# Altium integrated library Analog Devices RF IF PLL Synthesizers and VCOs.IntLib: 183 symbols (part 5 of 15)
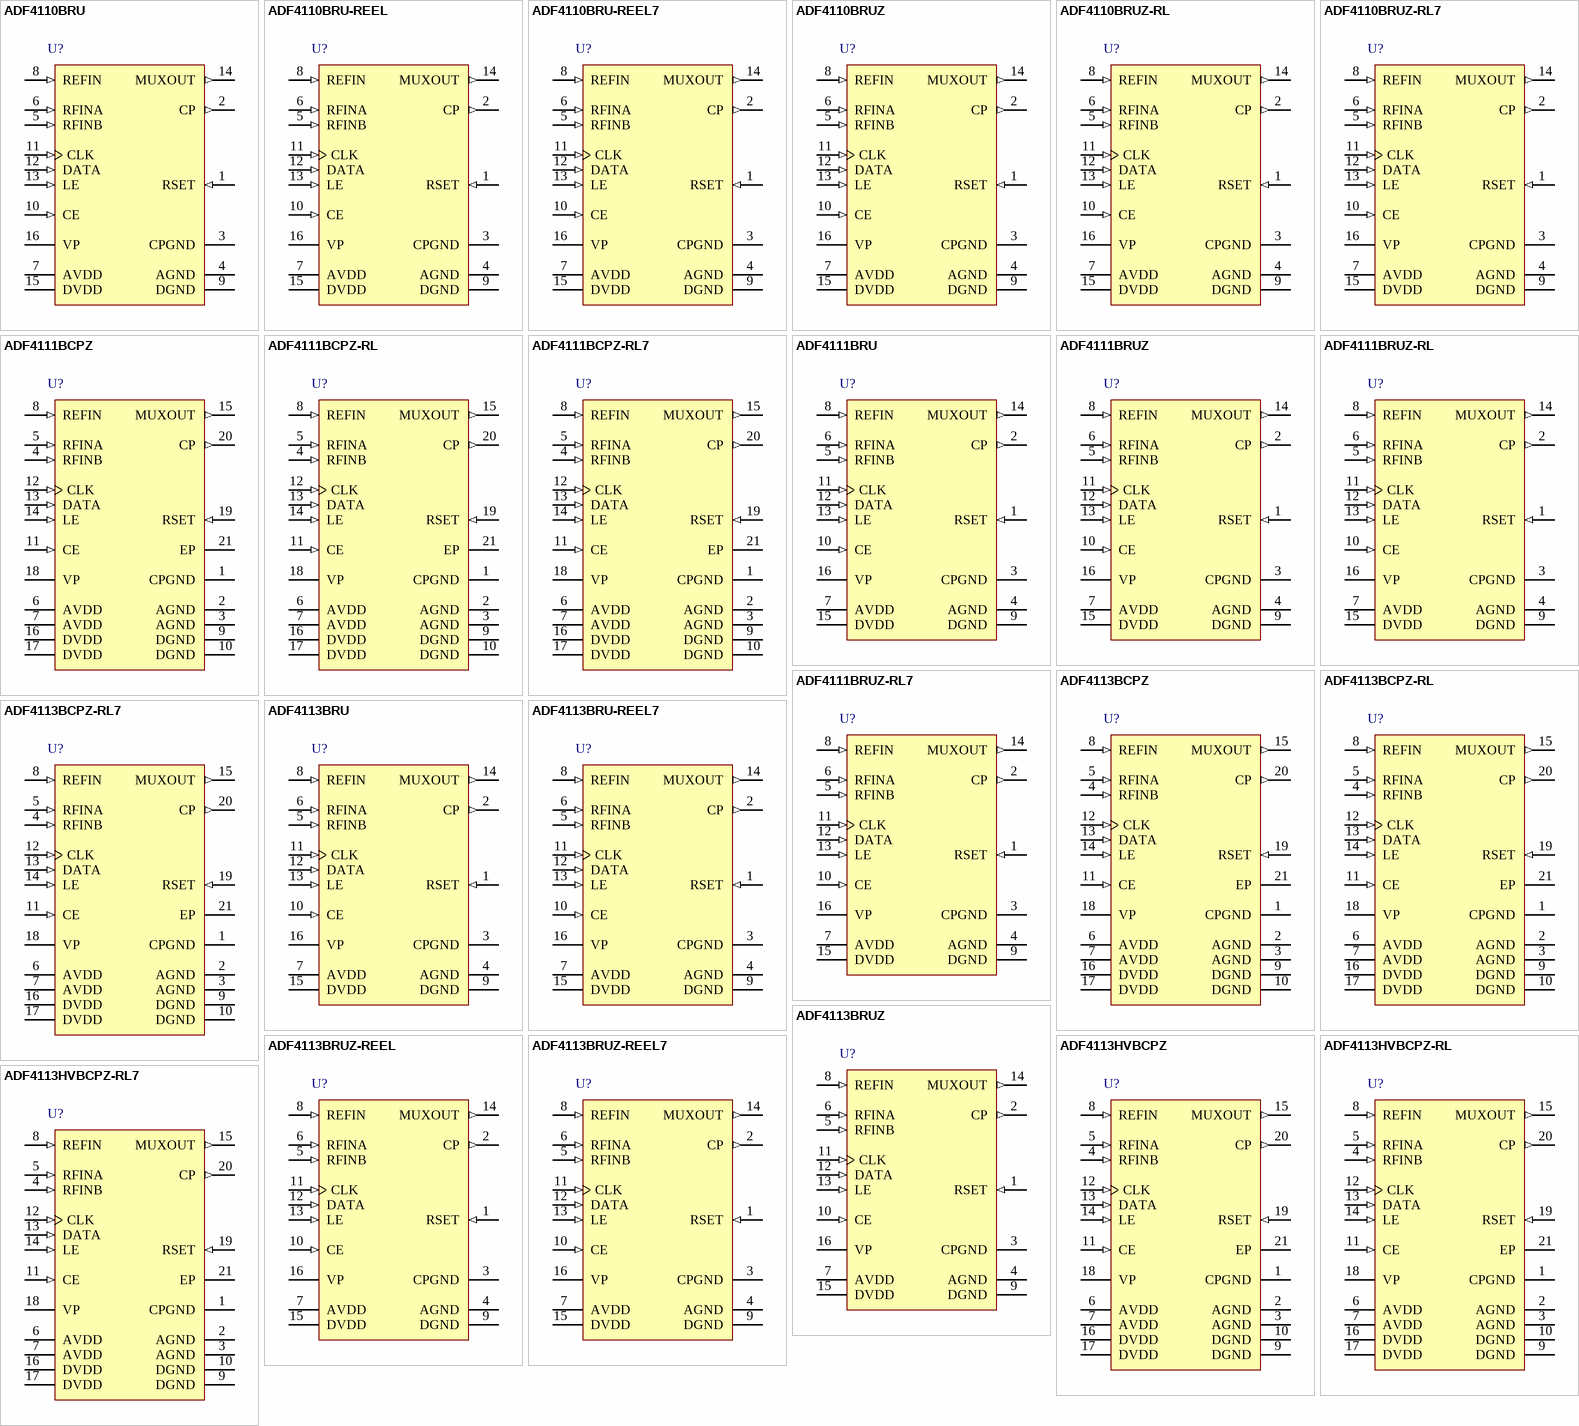
[diagram p12: symbols ADF4110BRU to ADF4113HVBCPZ-RL7]

## ADF4110BRUZ-RL
designator U?
RF PLL Frequency Synthesizers, RU-16, Pb-Free, 2500 Reel; Single/Dual: Single; Max RF Input (MHz): 550MHz; RF Prescalers: 16/17, 32/33, 64/65, 8/9; Max REFin (MHz): 104MHz; Norm Phase Noise (dBc/Hz): -215dBc; Frequency Range: 50MHz-550MHz; Supply Current: 4.5mA; DatasheetVersion: Rev. C; PackageVersion: Nov-2002; PackageReference: RU-16; PackageDescription: 16-Lead Thin Shrink Small Outline Package [TSSOP]; Code_JEDEC: MO-153AB; ComponentLink1Description: Manufacturer URL; ComponentLink1URL: www.analog.com; ComponentLink2Description: Datasheet; ComponentLink2URL: http://www.analog.com/static/imported-files/data_sheets/ADF4110_4111_4112_4113.pdf; ComponentLink3Description: Package Specification; ComponentLink3URL: http://www.analog.com/static/imported-files/packages/36244347913743854010197452789RU16.pdf
footprint ADI-RU-16_N (TSOP, 16-Leads, Body 5x4.4mm, Pitch 0.65mm, IPC Medium Density)
footprint ADI-RU-16_L (TSOP, 16-Leads, Body 5x4.4mm, Pitch 0.65mm, IPC High Density)
footprint ADI-RU-16_M (TSOP, 16-Leads, Body 5x4.4mm, Pitch 0.65mm, IPC Low Density)
pins: 1 RSET (in) "Connecting a resistor between this pin and CPGND sets the maximum charge pump output current.The nominal voltage potential at the RSET pin is 0.56 V", 2 CP (out) "Charge Pump Output. When enabled, this provides +/-ICP to the external loop filter, which in turn drives the external VCO", 3 CPGND (power) "Charge Pump Ground. This is the ground return path for the charge pump", 4 AGND (power) "Analog Ground. This is the ground return path of the prescaler", 5 RFINB (in) "Complementary Input to the RF Prescaler. This point should be decoupled to the ground plane with a small bypass capacitor, typically 100 pF", 6 RFINA (in) "Input to the RF Prescaler. This small-signal input is ac-coupled from the VCO", 7 AVDD (power) "Analog Power Supply. This may range from 2.7 V to 5.5 V. Decoupling capacitors to the analog ground plane should be placed as close as possible to this pin. [see datasheet]", 8 REFIN (in) "Reference Input. This is a CMOS input with a nominal threshold of VDD/2, and an equivalent input resistance of 100 k ohm. See Figure 28. [see datasheet]", 9 DGND (power) "Digital Ground", 10 CE (in) "Chip Enable. A logic low on this pin powers down the device and puts the charge pump output into three-state mode. [see datasheet]", 11 CLK (in) "Serial Clock Input. This serial clock is used to clock in the serial data to the registers. The data is latched into the 24-bit shift register on the CLK rising edge. [see datasheet]", 12 DATA (in) "Serial Data Input. The serial data is loaded MSB first with the two LSBs being the control bits. This input is a high impedance CMOS input", 13 LE (in) "Load Enable, CMOS Input. When LE goes high, the data stored in the shift registers is loaded into one of the four latches; the latch is selected using the control bits", 14 MUXOUT (out) "This multiplexer output allows either the lock detect, the scaled RF, or the scaled reference frequency to be accessed externally", 15 DVDD (power) "Digital Power Supply. This may range from 2.7 V to 5.5 V. Decoupling capacitors to the digital ground plane should be placed as close as possible to this pin. [see datasheet]", 16 VP (power) "Charge Pump Power Supply. This should be greater than or equal to VDD. In systems where VDD is 3 V, VP can be set to 6 V and used to drive a VCO with a tuning range of up to 6 V"

## ADF4110BRUZ-RL7
designator U?
RF PLL Frequency Synthesizers, RU-16, Pb-Free, 1000 Reel; Single/Dual: Single; Max RF Input (MHz): 550MHz; RF Prescalers: 16/17, 32/33, 64/65, 8/9; Max REFin (MHz): 104MHz; Norm Phase Noise (dBc/Hz): -215dBc; Frequency Range: 50MHz-550MHz; Supply Current: 4.5mA; DatasheetVersion: Rev. C; PackageVersion: Nov-2002; PackageReference: RU-16; PackageDescription: 16-Lead Thin Shrink Small Outline Package [TSSOP]; Code_JEDEC: MO-153AB; ComponentLink1Description: Manufacturer URL; ComponentLink1URL: www.analog.com; ComponentLink2Description: Datasheet; ComponentLink2URL: http://www.analog.com/static/imported-files/data_sheets/ADF4110_4111_4112_4113.pdf; ComponentLink3Description: Package Specification; ComponentLink3URL: http://www.analog.com/static/imported-files/packages/36244347913743854010197452789RU16.pdf
footprint ADI-RU-16_N (TSOP, 16-Leads, Body 5x4.4mm, Pitch 0.65mm, IPC Medium Density)
footprint ADI-RU-16_L (TSOP, 16-Leads, Body 5x4.4mm, Pitch 0.65mm, IPC High Density)
footprint ADI-RU-16_M (TSOP, 16-Leads, Body 5x4.4mm, Pitch 0.65mm, IPC Low Density)
pins: 1 RSET (in) "Connecting a resistor between this pin and CPGND sets the maximum charge pump output current.The nominal voltage potential at the RSET pin is 0.56 V", 2 CP (out) "Charge Pump Output. When enabled, this provides +/-ICP to the external loop filter, which in turn drives the external VCO", 3 CPGND (power) "Charge Pump Ground. This is the ground return path for the charge pump", 4 AGND (power) "Analog Ground. This is the ground return path of the prescaler", 5 RFINB (in) "Complementary Input to the RF Prescaler. This point should be decoupled to the ground plane with a small bypass capacitor, typically 100 pF", 6 RFINA (in) "Input to the RF Prescaler. This small-signal input is ac-coupled from the VCO", 7 AVDD (power) "Analog Power Supply. This may range from 2.7 V to 5.5 V. Decoupling capacitors to the analog ground plane should be placed as close as possible to this pin. [see datasheet]", 8 REFIN (in) "Reference Input. This is a CMOS input with a nominal threshold of VDD/2, and an equivalent input resistance of 100 k ohm. See Figure 28. [see datasheet]", 9 DGND (power) "Digital Ground", 10 CE (in) "Chip Enable. A logic low on this pin powers down the device and puts the charge pump output into three-state mode. [see datasheet]", 11 CLK (in) "Serial Clock Input. This serial clock is used to clock in the serial data to the registers. The data is latched into the 24-bit shift register on the CLK rising edge. [see datasheet]", 12 DATA (in) "Serial Data Input. The serial data is loaded MSB first with the two LSBs being the control bits. This input is a high impedance CMOS input", 13 LE (in) "Load Enable, CMOS Input. When LE goes high, the data stored in the shift registers is loaded into one of the four latches; the latch is selected using the control bits", 14 MUXOUT (out) "This multiplexer output allows either the lock detect, the scaled RF, or the scaled reference frequency to be accessed externally", 15 DVDD (power) "Digital Power Supply. This may range from 2.7 V to 5.5 V. Decoupling capacitors to the digital ground plane should be placed as close as possible to this pin. [see datasheet]", 16 VP (power) "Charge Pump Power Supply. This should be greater than or equal to VDD. In systems where VDD is 3 V, VP can be set to 6 V and used to drive a VCO with a tuning range of up to 6 V"

## ADF4111BCPZ
designator U?
RF PLL Frequency Synthesizers, CP-20-1, Pb-Free, 490 Tube; Single/Dual: Single; Max RF Input (MHz): 1.2GHz; RF Prescalers: 16/17, 32/33, 64/65, 8/9; Max REFin (MHz): 104MHz; Norm Phase Noise (dBc/Hz): -215dBc; Frequency Range: 80MHz-1.2GHz; Supply Current: 4.5mA; DatasheetVersion: Rev. C; PackageVersion: 012508-B; PackageReference: CP-20-1; PackageDescription: 20-Lead Lead Frame Chip Scale Package [LFCSP_VQ]; Code_JEDEC: MO-220-VGGD-1; ComponentLink1Description: Manufacturer URL; ComponentLink1URL: www.analog.com; ComponentLink2Description: Datasheet; ComponentLink2URL: http://www.analog.com/static/imported-files/data_sheets/ADF4110_4111_4112_4113.pdf; ComponentLink3Description: Package Specification; ComponentLink3URL: http://www.analog.com/static/imported-files/packages/PKG_PDF/LFCSP(CP)/CP_20_1.pdf
footprint ADI-CP-20-1_N (QFN, 20-Leads, Body 4x4mm, Pitch 0.5mm, Thermal Pad 2.2x2.2mm, IPC Medium Density)
footprint ADI-CP-20-1_L (QFN, 20-Leads, Body 4x4mm, Pitch 0.5mm, Thermal Pad 2.2x2.2mm, IPC High Density)
footprint ADI-CP-20-1_M (QFN, 20-Leads, Body 4x4mm, Pitch 0.5mm, Thermal Pad 2.2x2.2mm, IPC Low Density)
pins: 1 CPGND (power) "Charge Pump Ground. This is the ground return path for the charge pump", 2 AGND (power) "Analog Ground. This is the ground return path of the prescaler", 3 AGND (power) "Analog Ground. This is the ground return path of the prescaler", 4 RFINB (in) "Complementary Input to the RF Prescaler. This point should be decoupled to the ground plane with a small bypass capacitor, typically 100 pF", 5 RFINA (in) "Input to the RF Prescaler. This small-signal input is ac-coupled from the VCO", 6 AVDD (power) "Analog Power Supply. This may range from 2.7 V to 5.5 V. Decoupling capacitors to the analog ground plane should be placed as close as possible to this pin. [see datasheet]", 7 AVDD (power) "Analog Power Supply. This may range from 2.7 V to 5.5 V. Decoupling capacitors to the analog ground plane should be placed as close as possible to this pin. [see datasheet]", 8 REFIN (in) "Reference Input. This is a CMOS input with a nominal threshold of VDD/2, and an equivalent input resistance of 100 k ohm. See Figure 28. [see datasheet]", 9 DGND (power) "Digital Ground", 10 DGND (power) "Digital Ground", 11 CE (in) "Chip Enable. A logic low on this pin powers down the device and puts the charge pump output into three-state mode. [see datasheet]", 12 CLK (in) "Serial Clock Input. This serial clock is used to clock in the serial data to the registers. The data is latched into the 24-bit shift register on the CLK rising edge. [see datasheet]", 13 DATA (in) "Serial Data Input. The serial data is loaded MSB first with the two LSBs being the control bits. This input is a high impedance CMOS input", 14 LE (in) "Load Enable, CMOS Input. When LE goes high, the data stored in the shift registers is loaded into one of the four latches; the latch is selected using the control bits", 15 MUXOUT (out) "This multiplexer output allows either the lock detect, the scaled RF, or the scaled reference frequency to be accessed externally", 16 DVDD (power) "Digital Power Supply. This may range from 2.7 V to 5.5 V. Decoupling capacitors to the digital ground plane should be placed as close as possible to this pin. [see datasheet]", 17 DVDD (power) "Digital Power Supply. This may range from 2.7 V to 5.5 V. Decoupling capacitors to the digital ground plane should be placed as close as possible to this pin. [see datasheet]", 18 VP (power) "Charge Pump Power Supply. This should be greater than or equal to VDD. In systems where VDD is 3 V, VP can be set to 6 V and used to drive a VCO with a tuning range of up to 6 V", 19 RSET (in) "Connecting a resistor between this pin and CPGND sets the maximum charge pump output current.The nominal voltage potential at the RSET pin is 0.56 V", 20 CP (out) "Charge Pump Output. When enabled, this provides +/-ICP to the external loop filter, which in turn drives the external VCO", 21 EP (power) "Exposed pad"

## ADF4111BCPZ-RL
designator U?
RF PLL Frequency Synthesizers, CP-20-1, Pb-Free, 5000 Reel; Single/Dual: Single; Max RF Input (MHz): 1.2GHz; RF Prescalers: 16/17, 32/33, 64/65, 8/9; Max REFin (MHz): 104MHz; Norm Phase Noise (dBc/Hz): -215dBc; Frequency Range: 80MHz-1.2GHz; Supply Current: 4.5mA; DatasheetVersion: Rev. C; PackageVersion: 012508-B; PackageReference: CP-20-1; PackageDescription: 20-Lead Lead Frame Chip Scale Package [LFCSP_VQ]; Code_JEDEC: MO-220-VGGD-1; ComponentLink1Description: Manufacturer URL; ComponentLink1URL: www.analog.com; ComponentLink2Description: Datasheet; ComponentLink2URL: http://www.analog.com/static/imported-files/data_sheets/ADF4110_4111_4112_4113.pdf; ComponentLink3Description: Package Specification; ComponentLink3URL: http://www.analog.com/static/imported-files/packages/PKG_PDF/LFCSP(CP)/CP_20_1.pdf
footprint ADI-CP-20-1_N (QFN, 20-Leads, Body 4x4mm, Pitch 0.5mm, Thermal Pad 2.2x2.2mm, IPC Medium Density)
footprint ADI-CP-20-1_L (QFN, 20-Leads, Body 4x4mm, Pitch 0.5mm, Thermal Pad 2.2x2.2mm, IPC High Density)
footprint ADI-CP-20-1_M (QFN, 20-Leads, Body 4x4mm, Pitch 0.5mm, Thermal Pad 2.2x2.2mm, IPC Low Density)
pins: 1 CPGND (power) "Charge Pump Ground. This is the ground return path for the charge pump", 2 AGND (power) "Analog Ground. This is the ground return path of the prescaler", 3 AGND (power) "Analog Ground. This is the ground return path of the prescaler", 4 RFINB (in) "Complementary Input to the RF Prescaler. This point should be decoupled to the ground plane with a small bypass capacitor, typically 100 pF", 5 RFINA (in) "Input to the RF Prescaler. This small-signal input is ac-coupled from the VCO", 6 AVDD (power) "Analog Power Supply. This may range from 2.7 V to 5.5 V. Decoupling capacitors to the analog ground plane should be placed as close as possible to this pin. [see datasheet]", 7 AVDD (power) "Analog Power Supply. This may range from 2.7 V to 5.5 V. Decoupling capacitors to the analog ground plane should be placed as close as possible to this pin. [see datasheet]", 8 REFIN (in) "Reference Input. This is a CMOS input with a nominal threshold of VDD/2, and an equivalent input resistance of 100 k ohm. See Figure 28. [see datasheet]", 9 DGND (power) "Digital Ground", 10 DGND (power) "Digital Ground", 11 CE (in) "Chip Enable. A logic low on this pin powers down the device and puts the charge pump output into three-state mode. [see datasheet]", 12 CLK (in) "Serial Clock Input. This serial clock is used to clock in the serial data to the registers. The data is latched into the 24-bit shift register on the CLK rising edge. [see datasheet]", 13 DATA (in) "Serial Data Input. The serial data is loaded MSB first with the two LSBs being the control bits. This input is a high impedance CMOS input", 14 LE (in) "Load Enable, CMOS Input. When LE goes high, the data stored in the shift registers is loaded into one of the four latches; the latch is selected using the control bits", 15 MUXOUT (out) "This multiplexer output allows either the lock detect, the scaled RF, or the scaled reference frequency to be accessed externally", 16 DVDD (power) "Digital Power Supply. This may range from 2.7 V to 5.5 V. Decoupling capacitors to the digital ground plane should be placed as close as possible to this pin. [see datasheet]", 17 DVDD (power) "Digital Power Supply. This may range from 2.7 V to 5.5 V. Decoupling capacitors to the digital ground plane should be placed as close as possible to this pin. [see datasheet]", 18 VP (power) "Charge Pump Power Supply. This should be greater than or equal to VDD. In systems where VDD is 3 V, VP can be set to 6 V and used to drive a VCO with a tuning range of up to 6 V", 19 RSET (in) "Connecting a resistor between this pin and CPGND sets the maximum charge pump output current.The nominal voltage potential at the RSET pin is 0.56 V", 20 CP (out) "Charge Pump Output. When enabled, this provides +/-ICP to the external loop filter, which in turn drives the external VCO", 21 EP (power) "Exposed pad"

## ADF4111BCPZ-RL7
designator U?
RF PLL Frequency Synthesizers, CP-20-1, Pb-Free, 1500 Reel; Single/Dual: Single; Max RF Input (MHz): 1.2GHz; RF Prescalers: 16/17, 32/33, 64/65, 8/9; Max REFin (MHz): 104MHz; Norm Phase Noise (dBc/Hz): -215dBc; Frequency Range: 80MHz-1.2GHz; Supply Current: 4.5mA; DatasheetVersion: Rev. C; PackageVersion: 012508-B; PackageReference: CP-20-1; PackageDescription: 20-Lead Lead Frame Chip Scale Package [LFCSP_VQ]; Code_JEDEC: MO-220-VGGD-1; ComponentLink1Description: Manufacturer URL; ComponentLink1URL: www.analog.com; ComponentLink2Description: Datasheet; ComponentLink2URL: http://www.analog.com/static/imported-files/data_sheets/ADF4110_4111_4112_4113.pdf; ComponentLink3Description: Package Specification; ComponentLink3URL: http://www.analog.com/static/imported-files/packages/PKG_PDF/LFCSP(CP)/CP_20_1.pdf
footprint ADI-CP-20-1_N (QFN, 20-Leads, Body 4x4mm, Pitch 0.5mm, Thermal Pad 2.2x2.2mm, IPC Medium Density)
footprint ADI-CP-20-1_L (QFN, 20-Leads, Body 4x4mm, Pitch 0.5mm, Thermal Pad 2.2x2.2mm, IPC High Density)
footprint ADI-CP-20-1_M (QFN, 20-Leads, Body 4x4mm, Pitch 0.5mm, Thermal Pad 2.2x2.2mm, IPC Low Density)
pins: 1 CPGND (power) "Charge Pump Ground. This is the ground return path for the charge pump", 2 AGND (power) "Analog Ground. This is the ground return path of the prescaler", 3 AGND (power) "Analog Ground. This is the ground return path of the prescaler", 4 RFINB (in) "Complementary Input to the RF Prescaler. This point should be decoupled to the ground plane with a small bypass capacitor, typically 100 pF", 5 RFINA (in) "Input to the RF Prescaler. This small-signal input is ac-coupled from the VCO", 6 AVDD (power) "Analog Power Supply. This may range from 2.7 V to 5.5 V. Decoupling capacitors to the analog ground plane should be placed as close as possible to this pin. [see datasheet]", 7 AVDD (power) "Analog Power Supply. This may range from 2.7 V to 5.5 V. Decoupling capacitors to the analog ground plane should be placed as close as possible to this pin. [see datasheet]", 8 REFIN (in) "Reference Input. This is a CMOS input with a nominal threshold of VDD/2, and an equivalent input resistance of 100 k ohm. See Figure 28. [see datasheet]", 9 DGND (power) "Digital Ground", 10 DGND (power) "Digital Ground", 11 CE (in) "Chip Enable. A logic low on this pin powers down the device and puts the charge pump output into three-state mode. [see datasheet]", 12 CLK (in) "Serial Clock Input. This serial clock is used to clock in the serial data to the registers. The data is latched into the 24-bit shift register on the CLK rising edge. [see datasheet]", 13 DATA (in) "Serial Data Input. The serial data is loaded MSB first with the two LSBs being the control bits. This input is a high impedance CMOS input", 14 LE (in) "Load Enable, CMOS Input. When LE goes high, the data stored in the shift registers is loaded into one of the four latches; the latch is selected using the control bits", 15 MUXOUT (out) "This multiplexer output allows either the lock detect, the scaled RF, or the scaled reference frequency to be accessed externally", 16 DVDD (power) "Digital Power Supply. This may range from 2.7 V to 5.5 V. Decoupling capacitors to the digital ground plane should be placed as close as possible to this pin. [see datasheet]", 17 DVDD (power) "Digital Power Supply. This may range from 2.7 V to 5.5 V. Decoupling capacitors to the digital ground plane should be placed as close as possible to this pin. [see datasheet]", 18 VP (power) "Charge Pump Power Supply. This should be greater than or equal to VDD. In systems where VDD is 3 V, VP can be set to 6 V and used to drive a VCO with a tuning range of up to 6 V", 19 RSET (in) "Connecting a resistor between this pin and CPGND sets the maximum charge pump output current.The nominal voltage potential at the RSET pin is 0.56 V", 20 CP (out) "Charge Pump Output. When enabled, this provides +/-ICP to the external loop filter, which in turn drives the external VCO", 21 EP (power) "Exposed pad"

## ADF4111BRU
designator U?
RF PLL Frequency Synthesizers, RU-16, 96 	Tube; Single/Dual: Single; Max RF Input (MHz): 1.2GHz; RF Prescalers: 16/17, 32/33, 64/65, 8/9; Max REFin (MHz): 104MHz; Norm Phase Noise (dBc/Hz): -215dBc; Frequency Range: 80MHz-1.2GHz; Supply Current: 4.5mA; DatasheetVersion: Rev. C; PackageVersion: Nov-2002; PackageReference: RU-16; PackageDescription: 16-Lead Thin Shrink Small Outline Package [TSSOP]; Code_JEDEC: MO-153AB; ComponentLink1Description: Manufacturer URL; ComponentLink1URL: www.analog.com; ComponentLink2Description: Datasheet; ComponentLink2URL: http://www.analog.com/static/imported-files/data_sheets/ADF4110_4111_4112_4113.pdf; ComponentLink3Description: Package Specification; ComponentLink3URL: http://www.analog.com/static/imported-files/packages/36244347913743854010197452789RU16.pdf
footprint ADI-RU-16_N (TSOP, 16-Leads, Body 5x4.4mm, Pitch 0.65mm, IPC Medium Density)
footprint ADI-RU-16_L (TSOP, 16-Leads, Body 5x4.4mm, Pitch 0.65mm, IPC High Density)
footprint ADI-RU-16_M (TSOP, 16-Leads, Body 5x4.4mm, Pitch 0.65mm, IPC Low Density)
pins: 1 RSET (in) "Connecting a resistor between this pin and CPGND sets the maximum charge pump output current.The nominal voltage potential at the RSET pin is 0.56 V", 2 CP (out) "Charge Pump Output. When enabled, this provides +/-ICP to the external loop filter, which in turn drives the external VCO", 3 CPGND (power) "Charge Pump Ground. This is the ground return path for the charge pump", 4 AGND (power) "Analog Ground. This is the ground return path of the prescaler", 5 RFINB (in) "Complementary Input to the RF Prescaler. This point should be decoupled to the ground plane with a small bypass capacitor, typically 100 pF", 6 RFINA (in) "Input to the RF Prescaler. This small-signal input is ac-coupled from the VCO", 7 AVDD (power) "Analog Power Supply. This may range from 2.7 V to 5.5 V. Decoupling capacitors to the analog ground plane should be placed as close as possible to this pin. [see datasheet]", 8 REFIN (in) "Reference Input. This is a CMOS input with a nominal threshold of VDD/2, and an equivalent input resistance of 100 k ohm. See Figure 28. [see datasheet]", 9 DGND (power) "Digital Ground", 10 CE (in) "Chip Enable. A logic low on this pin powers down the device and puts the charge pump output into three-state mode. [see datasheet]", 11 CLK (in) "Serial Clock Input. This serial clock is used to clock in the serial data to the registers. The data is latched into the 24-bit shift register on the CLK rising edge. [see datasheet]", 12 DATA (in) "Serial Data Input. The serial data is loaded MSB first with the two LSBs being the control bits. This input is a high impedance CMOS input", 13 LE (in) "Load Enable, CMOS Input. When LE goes high, the data stored in the shift registers is loaded into one of the four latches; the latch is selected using the control bits", 14 MUXOUT (out) "This multiplexer output allows either the lock detect, the scaled RF, or the scaled reference frequency to be accessed externally", 15 DVDD (power) "Digital Power Supply. This may range from 2.7 V to 5.5 V. Decoupling capacitors to the digital ground plane should be placed as close as possible to this pin. [see datasheet]", 16 VP (power) "Charge Pump Power Supply. This should be greater than or equal to VDD. In systems where VDD is 3 V, VP can be set to 6 V and used to drive a VCO with a tuning range of up to 6 V"

## ADF4111BRUZ
designator U?
RF PLL Frequency Synthesizers, RU-16, Pb-Free, 96 	Tube; Single/Dual: Single; Max RF Input (MHz): 1.2GHz; RF Prescalers: 16/17, 32/33, 64/65, 8/9; Max REFin (MHz): 104MHz; Norm Phase Noise (dBc/Hz): -215dBc; Frequency Range: 80MHz-1.2GHz; Supply Current: 4.5mA; DatasheetVersion: Rev. C; PackageVersion: Nov-2002; PackageReference: RU-16; PackageDescription: 16-Lead Thin Shrink Small Outline Package [TSSOP]; Code_JEDEC: MO-153AB; ComponentLink1Description: Manufacturer URL; ComponentLink1URL: www.analog.com; ComponentLink2Description: Datasheet; ComponentLink2URL: http://www.analog.com/static/imported-files/data_sheets/ADF4110_4111_4112_4113.pdf; ComponentLink3Description: Package Specification; ComponentLink3URL: http://www.analog.com/static/imported-files/packages/36244347913743854010197452789RU16.pdf
footprint ADI-RU-16_N (TSOP, 16-Leads, Body 5x4.4mm, Pitch 0.65mm, IPC Medium Density)
footprint ADI-RU-16_L (TSOP, 16-Leads, Body 5x4.4mm, Pitch 0.65mm, IPC High Density)
footprint ADI-RU-16_M (TSOP, 16-Leads, Body 5x4.4mm, Pitch 0.65mm, IPC Low Density)
pins: 1 RSET (in) "Connecting a resistor between this pin and CPGND sets the maximum charge pump output current.The nominal voltage potential at the RSET pin is 0.56 V", 2 CP (out) "Charge Pump Output. When enabled, this provides +/-ICP to the external loop filter, which in turn drives the external VCO", 3 CPGND (power) "Charge Pump Ground. This is the ground return path for the charge pump", 4 AGND (power) "Analog Ground. This is the ground return path of the prescaler", 5 RFINB (in) "Complementary Input to the RF Prescaler. This point should be decoupled to the ground plane with a small bypass capacitor, typically 100 pF", 6 RFINA (in) "Input to the RF Prescaler. This small-signal input is ac-coupled from the VCO", 7 AVDD (power) "Analog Power Supply. This may range from 2.7 V to 5.5 V. Decoupling capacitors to the analog ground plane should be placed as close as possible to this pin. [see datasheet]", 8 REFIN (in) "Reference Input. This is a CMOS input with a nominal threshold of VDD/2, and an equivalent input resistance of 100 k ohm. See Figure 28. [see datasheet]", 9 DGND (power) "Digital Ground", 10 CE (in) "Chip Enable. A logic low on this pin powers down the device and puts the charge pump output into three-state mode. [see datasheet]", 11 CLK (in) "Serial Clock Input. This serial clock is used to clock in the serial data to the registers. The data is latched into the 24-bit shift register on the CLK rising edge. [see datasheet]", 12 DATA (in) "Serial Data Input. The serial data is loaded MSB first with the two LSBs being the control bits. This input is a high impedance CMOS input", 13 LE (in) "Load Enable, CMOS Input. When LE goes high, the data stored in the shift registers is loaded into one of the four latches; the latch is selected using the control bits", 14 MUXOUT (out) "This multiplexer output allows either the lock detect, the scaled RF, or the scaled reference frequency to be accessed externally", 15 DVDD (power) "Digital Power Supply. This may range from 2.7 V to 5.5 V. Decoupling capacitors to the digital ground plane should be placed as close as possible to this pin. [see datasheet]", 16 VP (power) "Charge Pump Power Supply. This should be greater than or equal to VDD. In systems where VDD is 3 V, VP can be set to 6 V and used to drive a VCO with a tuning range of up to 6 V"

## ADF4111BRUZ-RL
designator U?
RF PLL Frequency Synthesizers, RU-16, Pb-Free, 2500 	Reel; Single/Dual: Single; Max RF Input (MHz): 1.2GHz; RF Prescalers: 16/17, 32/33, 64/65, 8/9; Max REFin (MHz): 104MHz; Norm Phase Noise (dBc/Hz): -215dBc; Frequency Range: 80MHz-1.2GHz; Supply Current: 4.5mA; DatasheetVersion: Rev. C; PackageVersion: Nov-2002; PackageReference: RU-16; PackageDescription: 16-Lead Thin Shrink Small Outline Package [TSSOP]; Code_JEDEC: MO-153AB; ComponentLink1Description: Manufacturer URL; ComponentLink1URL: www.analog.com; ComponentLink2Description: Datasheet; ComponentLink2URL: http://www.analog.com/static/imported-files/data_sheets/ADF4110_4111_4112_4113.pdf; ComponentLink3Description: Package Specification; ComponentLink3URL: http://www.analog.com/static/imported-files/packages/36244347913743854010197452789RU16.pdf
footprint ADI-RU-16_N (TSOP, 16-Leads, Body 5x4.4mm, Pitch 0.65mm, IPC Medium Density)
footprint ADI-RU-16_L (TSOP, 16-Leads, Body 5x4.4mm, Pitch 0.65mm, IPC High Density)
footprint ADI-RU-16_M (TSOP, 16-Leads, Body 5x4.4mm, Pitch 0.65mm, IPC Low Density)
pins: 1 RSET (in) "Connecting a resistor between this pin and CPGND sets the maximum charge pump output current.The nominal voltage potential at the RSET pin is 0.56 V", 2 CP (out) "Charge Pump Output. When enabled, this provides +/-ICP to the external loop filter, which in turn drives the external VCO", 3 CPGND (power) "Charge Pump Ground. This is the ground return path for the charge pump", 4 AGND (power) "Analog Ground. This is the ground return path of the prescaler", 5 RFINB (in) "Complementary Input to the RF Prescaler. This point should be decoupled to the ground plane with a small bypass capacitor, typically 100 pF", 6 RFINA (in) "Input to the RF Prescaler. This small-signal input is ac-coupled from the VCO", 7 AVDD (power) "Analog Power Supply. This may range from 2.7 V to 5.5 V. Decoupling capacitors to the analog ground plane should be placed as close as possible to this pin. [see datasheet]", 8 REFIN (in) "Reference Input. This is a CMOS input with a nominal threshold of VDD/2, and an equivalent input resistance of 100 k ohm. See Figure 28. [see datasheet]", 9 DGND (power) "Digital Ground", 10 CE (in) "Chip Enable. A logic low on this pin powers down the device and puts the charge pump output into three-state mode. [see datasheet]", 11 CLK (in) "Serial Clock Input. This serial clock is used to clock in the serial data to the registers. The data is latched into the 24-bit shift register on the CLK rising edge. [see datasheet]", 12 DATA (in) "Serial Data Input. The serial data is loaded MSB first with the two LSBs being the control bits. This input is a high impedance CMOS input", 13 LE (in) "Load Enable, CMOS Input. When LE goes high, the data stored in the shift registers is loaded into one of the four latches; the latch is selected using the control bits", 14 MUXOUT (out) "This multiplexer output allows either the lock detect, the scaled RF, or the scaled reference frequency to be accessed externally", 15 DVDD (power) "Digital Power Supply. This may range from 2.7 V to 5.5 V. Decoupling capacitors to the digital ground plane should be placed as close as possible to this pin. [see datasheet]", 16 VP (power) "Charge Pump Power Supply. This should be greater than or equal to VDD. In systems where VDD is 3 V, VP can be set to 6 V and used to drive a VCO with a tuning range of up to 6 V"

## ADF4111BRUZ-RL7
designator U?
RF PLL Frequency Synthesizers, RU-16, Pb-Free, 1000 	Reel; Single/Dual: Single; Max RF Input (MHz): 1.2GHz; RF Prescalers: 16/17, 32/33, 64/65, 8/9; Max REFin (MHz): 104MHz; Norm Phase Noise (dBc/Hz): -215dBc; Frequency Range: 80MHz-1.2GHz; Supply Current: 4.5mA; DatasheetVersion: Rev. C; PackageVersion: Nov-2002; PackageReference: RU-16; PackageDescription: 16-Lead Thin Shrink Small Outline Package [TSSOP]; Code_JEDEC: MO-153AB; ComponentLink1Description: Manufacturer URL; ComponentLink1URL: www.analog.com; ComponentLink2Description: Datasheet; ComponentLink2URL: http://www.analog.com/static/imported-files/data_sheets/ADF4110_4111_4112_4113.pdf; ComponentLink3Description: Package Specification; ComponentLink3URL: http://www.analog.com/static/imported-files/packages/36244347913743854010197452789RU16.pdf
footprint ADI-RU-16_N (TSOP, 16-Leads, Body 5x4.4mm, Pitch 0.65mm, IPC Medium Density)
footprint ADI-RU-16_L (TSOP, 16-Leads, Body 5x4.4mm, Pitch 0.65mm, IPC High Density)
footprint ADI-RU-16_M (TSOP, 16-Leads, Body 5x4.4mm, Pitch 0.65mm, IPC Low Density)
pins: 1 RSET (in) "Connecting a resistor between this pin and CPGND sets the maximum charge pump output current.The nominal voltage potential at the RSET pin is 0.56 V", 2 CP (out) "Charge Pump Output. When enabled, this provides +/-ICP to the external loop filter, which in turn drives the external VCO", 3 CPGND (power) "Charge Pump Ground. This is the ground return path for the charge pump", 4 AGND (power) "Analog Ground. This is the ground return path of the prescaler", 5 RFINB (in) "Complementary Input to the RF Prescaler. This point should be decoupled to the ground plane with a small bypass capacitor, typically 100 pF", 6 RFINA (in) "Input to the RF Prescaler. This small-signal input is ac-coupled from the VCO", 7 AVDD (power) "Analog Power Supply. This may range from 2.7 V to 5.5 V. Decoupling capacitors to the analog ground plane should be placed as close as possible to this pin. [see datasheet]", 8 REFIN (in) "Reference Input. This is a CMOS input with a nominal threshold of VDD/2, and an equivalent input resistance of 100 k ohm. See Figure 28. [see datasheet]", 9 DGND (power) "Digital Ground", 10 CE (in) "Chip Enable. A logic low on this pin powers down the device and puts the charge pump output into three-state mode. [see datasheet]", 11 CLK (in) "Serial Clock Input. This serial clock is used to clock in the serial data to the registers. The data is latched into the 24-bit shift register on the CLK rising edge. [see datasheet]", 12 DATA (in) "Serial Data Input. The serial data is loaded MSB first with the two LSBs being the control bits. This input is a high impedance CMOS input", 13 LE (in) "Load Enable, CMOS Input. When LE goes high, the data stored in the shift registers is loaded into one of the four latches; the latch is selected using the control bits", 14 MUXOUT (out) "This multiplexer output allows either the lock detect, the scaled RF, or the scaled reference frequency to be accessed externally", 15 DVDD (power) "Digital Power Supply. This may range from 2.7 V to 5.5 V. Decoupling capacitors to the digital ground plane should be placed as close as possible to this pin. [see datasheet]", 16 VP (power) "Charge Pump Power Supply. This should be greater than or equal to VDD. In systems where VDD is 3 V, VP can be set to 6 V and used to drive a VCO with a tuning range of up to 6 V"

## ADF4113BCPZ
designator U?
RF PLL Frequency Synthesizers, CP-20-1, Pb-Free, 490 Tube; Single/Dual: Single; Max RF Input (MHz): 4GHz; RF Prescalers: 16/17, 32/33, 64/65, 8/9; Max REFin (MHz): 104MHz; Norm Phase Noise (dBc/Hz): -215dBc; Frequency Range: 200MHz-3.7GHz; Supply Current: 8.5mA; DatasheetVersion: Rev. C; PackageVersion: 012508-B; PackageReference: CP-20-1; PackageDescription: 20-Lead Lead Frame Chip Scale Package [LFCSP_VQ]; Code_JEDEC: MO-220-VGGD-1; ComponentLink1Description: Manufacturer URL; ComponentLink1URL: www.analog.com; ComponentLink2Description: Datasheet; ComponentLink2URL: http://www.analog.com/static/imported-files/data_sheets/ADF4110_4111_4112_4113.pdf; ComponentLink3Description: Package Specification; ComponentLink3URL: http://www.analog.com/static/imported-files/packages/PKG_PDF/LFCSP(CP)/CP_20_1.pdf
footprint ADI-CP-20-1_N (QFN, 20-Leads, Body 4x4mm, Pitch 0.5mm, Thermal Pad 2.2x2.2mm, IPC Medium Density)
footprint ADI-CP-20-1_L (QFN, 20-Leads, Body 4x4mm, Pitch 0.5mm, Thermal Pad 2.2x2.2mm, IPC High Density)
footprint ADI-CP-20-1_M (QFN, 20-Leads, Body 4x4mm, Pitch 0.5mm, Thermal Pad 2.2x2.2mm, IPC Low Density)
pins: 1 CPGND (power) "Charge Pump Ground. This is the ground return path for the charge pump", 2 AGND (power) "Analog Ground. This is the ground return path of the prescaler", 3 AGND (power) "Analog Ground. This is the ground return path of the prescaler", 4 RFINB (in) "Complementary Input to the RF Prescaler. This point should be decoupled to the ground plane with a small bypass capacitor, typically 100 pF", 5 RFINA (in) "Input to the RF Prescaler. This small-signal input is ac-coupled from the VCO", 6 AVDD (power) "Analog Power Supply. This may range from 2.7 V to 5.5 V. Decoupling capacitors to the analog ground plane should be placed as close as possible to this pin. [see datasheet]", 7 AVDD (power) "Analog Power Supply. This may range from 2.7 V to 5.5 V. Decoupling capacitors to the analog ground plane should be placed as close as possible to this pin. [see datasheet]", 8 REFIN (in) "Reference Input. This is a CMOS input with a nominal threshold of VDD/2, and an equivalent input resistance of 100 k ohm. See Figure 28. [see datasheet]", 9 DGND (power) "Digital Ground", 10 DGND (power) "Digital Ground", 11 CE (in) "Chip Enable. A logic low on this pin powers down the device and puts the charge pump output into three-state mode. [see datasheet]", 12 CLK (in) "Serial Clock Input. This serial clock is used to clock in the serial data to the registers. The data is latched into the 24-bit shift register on the CLK rising edge. [see datasheet]", 13 DATA (in) "Serial Data Input. The serial data is loaded MSB first with the two LSBs being the control bits. This input is a high impedance CMOS input", 14 LE (in) "Load Enable, CMOS Input. When LE goes high, the data stored in the shift registers is loaded into one of the four latches; the latch is selected using the control bits", 15 MUXOUT (out) "This multiplexer output allows either the lock detect, the scaled RF, or the scaled reference frequency to be accessed externally", 16 DVDD (power) "Digital Power Supply. This may range from 2.7 V to 5.5 V. Decoupling capacitors to the digital ground plane should be placed as close as possible to this pin. [see datasheet]", 17 DVDD (power) "Digital Power Supply. This may range from 2.7 V to 5.5 V. Decoupling capacitors to the digital ground plane should be placed as close as possible to this pin. [see datasheet]", 18 VP (power) "Charge Pump Power Supply. This should be greater than or equal to VDD. In systems where VDD is 3 V, VP can be set to 6 V and used to drive a VCO with a tuning range of up to 6 V", 19 RSET (in) "Connecting a resistor between this pin and CPGND sets the maximum charge pump output current.The nominal voltage potential at the RSET pin is 0.56 V", 20 CP (out) "Charge Pump Output. When enabled, this provides +/-ICP to the external loop filter, which in turn drives the external VCO", 21 EP (power) "Exposed pad"

## ADF4113BCPZ-RL
designator U?
RF PLL Frequency Synthesizers, CP-20-1, Pb-Free, 5000 Reel; Single/Dual: Single; Max RF Input (MHz): 4GHz; RF Prescalers: 16/17, 32/33, 64/65, 8/9; Max REFin (MHz): 104MHz; Norm Phase Noise (dBc/Hz): -215dBc; Frequency Range: 200MHz-3.7GHz; Supply Current: 8.5mA; DatasheetVersion: Rev. C; PackageVersion: 012508-B; PackageReference: CP-20-1; PackageDescription: 20-Lead Lead Frame Chip Scale Package [LFCSP_VQ]; Code_JEDEC: MO-220-VGGD-1; ComponentLink1Description: Manufacturer URL; ComponentLink1URL: www.analog.com; ComponentLink2Description: Datasheet; ComponentLink2URL: http://www.analog.com/static/imported-files/data_sheets/ADF4110_4111_4112_4113.pdf; ComponentLink3Description: Package Specification; ComponentLink3URL: http://www.analog.com/static/imported-files/packages/PKG_PDF/LFCSP(CP)/CP_20_1.pdf
footprint ADI-CP-20-1_N (QFN, 20-Leads, Body 4x4mm, Pitch 0.5mm, Thermal Pad 2.2x2.2mm, IPC Medium Density)
footprint ADI-CP-20-1_L (QFN, 20-Leads, Body 4x4mm, Pitch 0.5mm, Thermal Pad 2.2x2.2mm, IPC High Density)
footprint ADI-CP-20-1_M (QFN, 20-Leads, Body 4x4mm, Pitch 0.5mm, Thermal Pad 2.2x2.2mm, IPC Low Density)
pins: 1 CPGND (power) "Charge Pump Ground. This is the ground return path for the charge pump", 2 AGND (power) "Analog Ground. This is the ground return path of the prescaler", 3 AGND (power) "Analog Ground. This is the ground return path of the prescaler", 4 RFINB (in) "Complementary Input to the RF Prescaler. This point should be decoupled to the ground plane with a small bypass capacitor, typically 100 pF", 5 RFINA (in) "Input to the RF Prescaler. This small-signal input is ac-coupled from the VCO", 6 AVDD (power) "Analog Power Supply. This may range from 2.7 V to 5.5 V. Decoupling capacitors to the analog ground plane should be placed as close as possible to this pin. [see datasheet]", 7 AVDD (power) "Analog Power Supply. This may range from 2.7 V to 5.5 V. Decoupling capacitors to the analog ground plane should be placed as close as possible to this pin. [see datasheet]", 8 REFIN (in) "Reference Input. This is a CMOS input with a nominal threshold of VDD/2, and an equivalent input resistance of 100 k ohm. See Figure 28. [see datasheet]", 9 DGND (power) "Digital Ground", 10 DGND (power) "Digital Ground", 11 CE (in) "Chip Enable. A logic low on this pin powers down the device and puts the charge pump output into three-state mode. [see datasheet]", 12 CLK (in) "Serial Clock Input. This serial clock is used to clock in the serial data to the registers. The data is latched into the 24-bit shift register on the CLK rising edge. [see datasheet]", 13 DATA (in) "Serial Data Input. The serial data is loaded MSB first with the two LSBs being the control bits. This input is a high impedance CMOS input", 14 LE (in) "Load Enable, CMOS Input. When LE goes high, the data stored in the shift registers is loaded into one of the four latches; the latch is selected using the control bits", 15 MUXOUT (out) "This multiplexer output allows either the lock detect, the scaled RF, or the scaled reference frequency to be accessed externally", 16 DVDD (power) "Digital Power Supply. This may range from 2.7 V to 5.5 V. Decoupling capacitors to the digital ground plane should be placed as close as possible to this pin. [see datasheet]", 17 DVDD (power) "Digital Power Supply. This may range from 2.7 V to 5.5 V. Decoupling capacitors to the digital ground plane should be placed as close as possible to this pin. [see datasheet]", 18 VP (power) "Charge Pump Power Supply. This should be greater than or equal to VDD. In systems where VDD is 3 V, VP can be set to 6 V and used to drive a VCO with a tuning range of up to 6 V", 19 RSET (in) "Connecting a resistor between this pin and CPGND sets the maximum charge pump output current.The nominal voltage potential at the RSET pin is 0.56 V", 20 CP (out) "Charge Pump Output. When enabled, this provides +/-ICP to the external loop filter, which in turn drives the external VCO", 21 EP (power) "Exposed pad"

## ADF4113BCPZ-RL7
designator U?
RF PLL Frequency Synthesizers, CP-20-1, Pb-Free, 1500 Reel; Single/Dual: Single; Max RF Input (MHz): 4GHz; RF Prescalers: 16/17, 32/33, 64/65, 8/9; Max REFin (MHz): 104MHz; Norm Phase Noise (dBc/Hz): -215dBc; Frequency Range: 200MHz-3.7GHz; Supply Current: 8.5mA; DatasheetVersion: Rev. C; PackageVersion: 012508-B; PackageReference: CP-20-1; PackageDescription: 20-Lead Lead Frame Chip Scale Package [LFCSP_VQ]; Code_JEDEC: MO-220-VGGD-1; ComponentLink1Description: Manufacturer URL; ComponentLink1URL: www.analog.com; ComponentLink2Description: Datasheet; ComponentLink2URL: http://www.analog.com/static/imported-files/data_sheets/ADF4110_4111_4112_4113.pdf; ComponentLink3Description: Package Specification; ComponentLink3URL: http://www.analog.com/static/imported-files/packages/PKG_PDF/LFCSP(CP)/CP_20_1.pdf
footprint ADI-CP-20-1_N (QFN, 20-Leads, Body 4x4mm, Pitch 0.5mm, Thermal Pad 2.2x2.2mm, IPC Medium Density)
footprint ADI-CP-20-1_L (QFN, 20-Leads, Body 4x4mm, Pitch 0.5mm, Thermal Pad 2.2x2.2mm, IPC High Density)
footprint ADI-CP-20-1_M (QFN, 20-Leads, Body 4x4mm, Pitch 0.5mm, Thermal Pad 2.2x2.2mm, IPC Low Density)
pins: 1 CPGND (power) "Charge Pump Ground. This is the ground return path for the charge pump", 2 AGND (power) "Analog Ground. This is the ground return path of the prescaler", 3 AGND (power) "Analog Ground. This is the ground return path of the prescaler", 4 RFINB (in) "Complementary Input to the RF Prescaler. This point should be decoupled to the ground plane with a small bypass capacitor, typically 100 pF", 5 RFINA (in) "Input to the RF Prescaler. This small-signal input is ac-coupled from the VCO", 6 AVDD (power) "Analog Power Supply. This may range from 2.7 V to 5.5 V. Decoupling capacitors to the analog ground plane should be placed as close as possible to this pin. [see datasheet]", 7 AVDD (power) "Analog Power Supply. This may range from 2.7 V to 5.5 V. Decoupling capacitors to the analog ground plane should be placed as close as possible to this pin. [see datasheet]", 8 REFIN (in) "Reference Input. This is a CMOS input with a nominal threshold of VDD/2, and an equivalent input resistance of 100 k ohm. See Figure 28. [see datasheet]", 9 DGND (power) "Digital Ground", 10 DGND (power) "Digital Ground", 11 CE (in) "Chip Enable. A logic low on this pin powers down the device and puts the charge pump output into three-state mode. [see datasheet]", 12 CLK (in) "Serial Clock Input. This serial clock is used to clock in the serial data to the registers. The data is latched into the 24-bit shift register on the CLK rising edge. [see datasheet]", 13 DATA (in) "Serial Data Input. The serial data is loaded MSB first with the two LSBs being the control bits. This input is a high impedance CMOS input", 14 LE (in) "Load Enable, CMOS Input. When LE goes high, the data stored in the shift registers is loaded into one of the four latches; the latch is selected using the control bits", 15 MUXOUT (out) "This multiplexer output allows either the lock detect, the scaled RF, or the scaled reference frequency to be accessed externally", 16 DVDD (power) "Digital Power Supply. This may range from 2.7 V to 5.5 V. Decoupling capacitors to the digital ground plane should be placed as close as possible to this pin. [see datasheet]", 17 DVDD (power) "Digital Power Supply. This may range from 2.7 V to 5.5 V. Decoupling capacitors to the digital ground plane should be placed as close as possible to this pin. [see datasheet]", 18 VP (power) "Charge Pump Power Supply. This should be greater than or equal to VDD. In systems where VDD is 3 V, VP can be set to 6 V and used to drive a VCO with a tuning range of up to 6 V", 19 RSET (in) "Connecting a resistor between this pin and CPGND sets the maximum charge pump output current.The nominal voltage potential at the RSET pin is 0.56 V", 20 CP (out) "Charge Pump Output. When enabled, this provides +/-ICP to the external loop filter, which in turn drives the external VCO", 21 EP (power) "Exposed pad"

## ADF4113BRU
designator U?
RF PLL Frequency Synthesizers, RU-16, 96 	Tube; Single/Dual: Single; Max RF Input (MHz): 4GHz; RF Prescalers: 16/17, 32/33, 64/65, 8/9; Max REFin (MHz): 104MHz; Norm Phase Noise (dBc/Hz): -215dBc; Frequency Range: 200MHz-3.7GHz; Supply Current: 8.5mA; DatasheetVersion: Rev. C; PackageVersion: Nov-2002; PackageReference: RU-16; PackageDescription: 16-Lead Thin Shrink Small Outline Package [TSSOP]; Code_JEDEC: MO-153AB; ComponentLink1Description: Manufacturer URL; ComponentLink1URL: www.analog.com; ComponentLink2Description: Datasheet; ComponentLink2URL: http://www.analog.com/static/imported-files/data_sheets/ADF4110_4111_4112_4113.pdf; ComponentLink3Description: Package Specification; ComponentLink3URL: http://www.analog.com/static/imported-files/packages/36244347913743854010197452789RU16.pdf
footprint ADI-RU-16_N (TSOP, 16-Leads, Body 5x4.4mm, Pitch 0.65mm, IPC Medium Density)
footprint ADI-RU-16_L (TSOP, 16-Leads, Body 5x4.4mm, Pitch 0.65mm, IPC High Density)
footprint ADI-RU-16_M (TSOP, 16-Leads, Body 5x4.4mm, Pitch 0.65mm, IPC Low Density)
pins: 1 RSET (in) "Connecting a resistor between this pin and CPGND sets the maximum charge pump output current.The nominal voltage potential at the RSET pin is 0.56 V", 2 CP (out) "Charge Pump Output. When enabled, this provides +/-ICP to the external loop filter, which in turn drives the external VCO", 3 CPGND (power) "Charge Pump Ground. This is the ground return path for the charge pump", 4 AGND (power) "Analog Ground. This is the ground return path of the prescaler", 5 RFINB (in) "Complementary Input to the RF Prescaler. This point should be decoupled to the ground plane with a small bypass capacitor, typically 100 pF", 6 RFINA (in) "Input to the RF Prescaler. This small-signal input is ac-coupled from the VCO", 7 AVDD (power) "Analog Power Supply. This may range from 2.7 V to 5.5 V. Decoupling capacitors to the analog ground plane should be placed as close as possible to this pin. [see datasheet]", 8 REFIN (in) "Reference Input. This is a CMOS input with a nominal threshold of VDD/2, and an equivalent input resistance of 100 k ohm. See Figure 28. [see datasheet]", 9 DGND (power) "Digital Ground", 10 CE (in) "Chip Enable. A logic low on this pin powers down the device and puts the charge pump output into three-state mode. [see datasheet]", 11 CLK (in) "Serial Clock Input. This serial clock is used to clock in the serial data to the registers. The data is latched into the 24-bit shift register on the CLK rising edge. [see datasheet]", 12 DATA (in) "Serial Data Input. The serial data is loaded MSB first with the two LSBs being the control bits. This input is a high impedance CMOS input", 13 LE (in) "Load Enable, CMOS Input. When LE goes high, the data stored in the shift registers is loaded into one of the four latches; the latch is selected using the control bits", 14 MUXOUT (out) "This multiplexer output allows either the lock detect, the scaled RF, or the scaled reference frequency to be accessed externally", 15 DVDD (power) "Digital Power Supply. This may range from 2.7 V to 5.5 V. Decoupling capacitors to the digital ground plane should be placed as close as possible to this pin. [see datasheet]", 16 VP (power) "Charge Pump Power Supply. This should be greater than or equal to VDD. In systems where VDD is 3 V, VP can be set to 6 V and used to drive a VCO with a tuning range of up to 6 V"